# EAGLE library part LTC2632 (library analog)
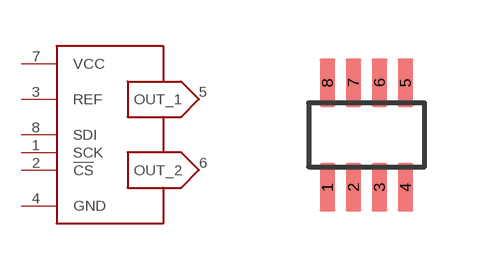
[diagram p4: symbol with the pads of TSOT23-8; footprint TSOT23-8]

Designator prefix -

## LTC2632  [TSOT23-8]
1  SCK  in
2  !CS  in
3  REF
4  GND  pwr
5  OUT_1  out
6  OUT_2  out
7  VCC  pwr
8  SDI  in

## Footprint TSOT23-8 (pad centres in mm)
smd 0.4 x 1.22: 1 -0.975,-1.31; 2 -0.325,-1.31; 3 0.325,-1.31; 4 0.975,-1.31; 5 0.975,1.31; 6 0.325,1.31; 7 -0.325,1.31; 8 -0.975,1.31